# EAGLE library part STM32F407ZX (library motorFeedback)
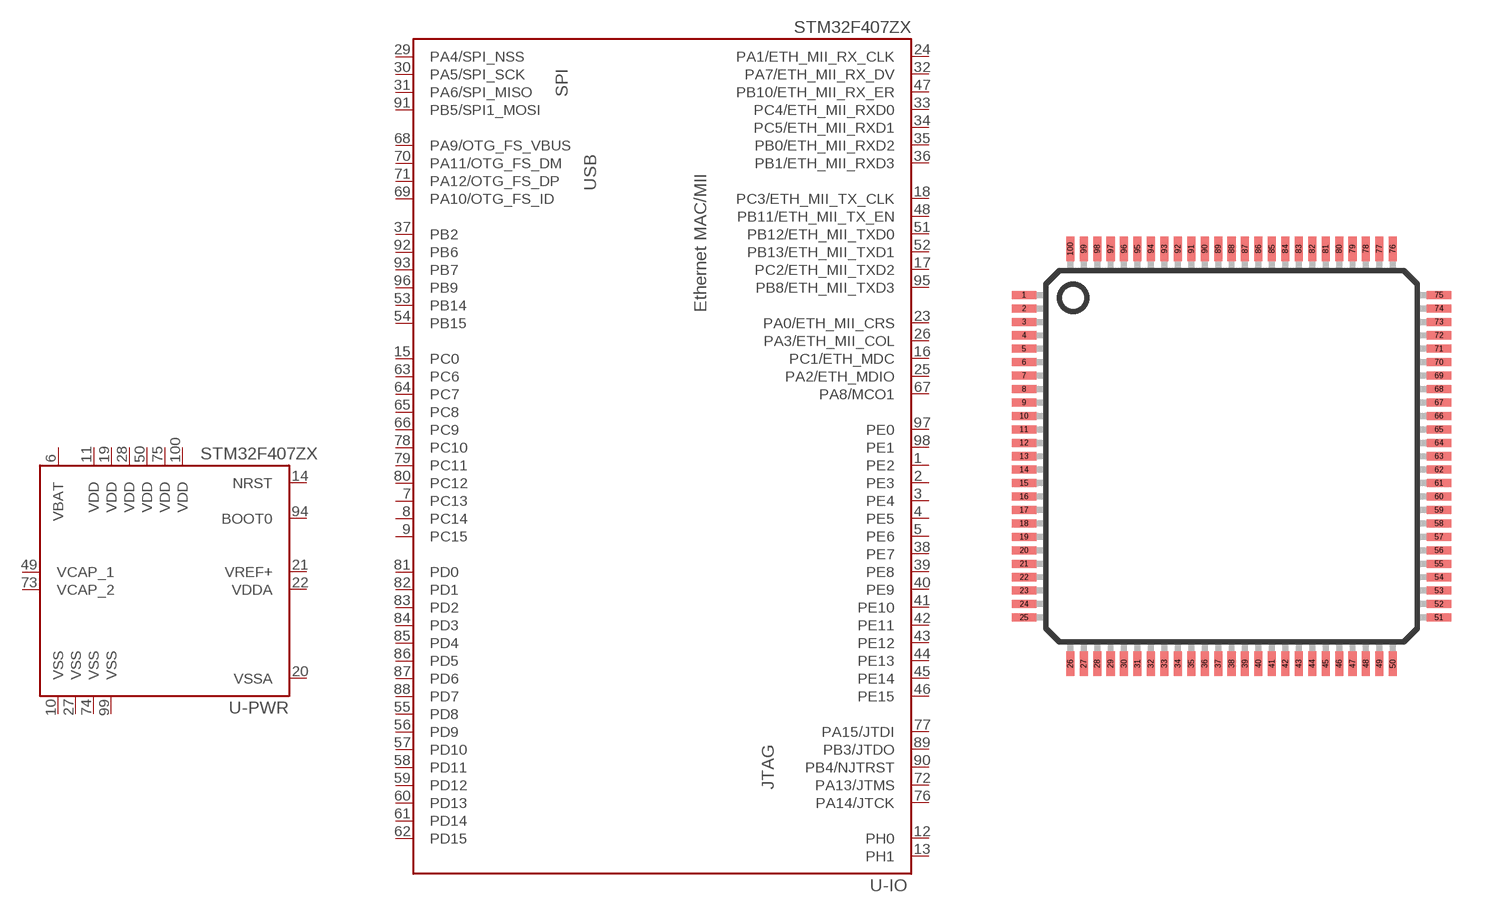
[diagram p32: symbol with the pads of LQFP-100; footprint LQFP-100]

Designator prefix U; gates -PWR=STM32F407ZX-PWR -IO=STM32F407ZX-IO

## STM32F407ZXT  [LQFP-100]
1  -IO:PE2
2  -IO:PE3
3  -IO:PE4
4  -IO:PE5
5  -IO:PE6
6  -PWR:VBAT  sup
7  -IO:PC13
8  -IO:PC14
9  -IO:PC15
10  -PWR:VSS  sup
11  -PWR:VDD  sup
12  -IO:PH0
13  -IO:PH1
14  -PWR:NRST  in
15  -IO:PC0
16  -IO:PC1/ETH_MDC
17  -IO:PC2/ETH_MII_TXD2
18  -IO:PC3/ETH_MII_TX_CLK
19  -PWR:VDD  sup
20  -PWR:VSSA  sup
21  -PWR:VREF+  sup
22  -PWR:VDDA  sup
23  -IO:PA0/ETH_MII_CRS
24  -IO:PA1/ETH_MII_RX_CLK
25  -IO:PA2/ETH_MDIO
26  -IO:PA3/ETH_MII_COL
27  -PWR:VSS  sup
28  -PWR:VDD  sup
29  -IO:PA4/SPI_NSS
30  -IO:PA5/SPI_SCK
31  -IO:PA6/SPI_MISO
32  -IO:PA7/ETH_MII_RX_DV
33  -IO:PC4/ETH_MII_RXD0
34  -IO:PC5/ETH_MII_RXD1
35  -IO:PB0/ETH_MII_RXD2
36  -IO:PB1/ETH_MII_RXD3
37  -IO:PB2
38  -IO:PE7
39  -IO:PE8
40  -IO:PE9
41  -IO:PE10
42  -IO:PE11
43  -IO:PE12
44  -IO:PE13
45  -IO:PE14
46  -IO:PE15
47  -IO:PB10/ETH_MII_RX_ER
48  -IO:PB11/ETH_MII_TX_EN
49  -PWR:VCAP_1  sup
50  -PWR:VDD  sup
51  -IO:PB12/ETH_MII_TXD0
52  -IO:PB13/ETH_MII_TXD1
53  -IO:PB14
54  -IO:PB15
55  -IO:PD8
56  -IO:PD9
57  -IO:PD10
58  -IO:PD11
59  -IO:PD12
60  -IO:PD13
61  -IO:PD14
62  -IO:PD15
63  -IO:PC6
64  -IO:PC7
65  -IO:PC8
66  -IO:PC9
67  -IO:PA8/MCO1
68  -IO:PA9/OTG_FS_VBUS
69  -IO:PA10/OTG_FS_ID
70  -IO:PA11/OTG_FS_DM
71  -IO:PA12/OTG_FS_DP
72  -IO:PA13/JTMS
73  -PWR:VCAP_2  sup
74  -PWR:VSS  sup
75  -PWR:VDD  sup
76  -IO:PA14/JTCK
77  -IO:PA15/JTDI
78  -IO:PC10
79  -IO:PC11
80  -IO:PC12
81  -IO:PD0
82  -IO:PD1
83  -IO:PD2
84  -IO:PD3
85  -IO:PD4
86  -IO:PD5
87  -IO:PD6
88  -IO:PD7
89  -IO:PB3/JTDO
90  -IO:PB4/NJTRST
91  -IO:PB5/SPI1_MOSI
92  -IO:PB6
93  -IO:PB7
94  -PWR:BOOT0  in
95  -IO:PB8/ETH_MII_TXD3
96  -IO:PB9
97  -IO:PE0
98  -IO:PE1
99  -PWR:VSS  sup
100  -PWR:VDD  sup

## Footprint LQFP-100 (pad centres in mm)
LQFP-100 From: http://www.st.com/internet/com/TECHNICAL_RESOURCES/TECHNICAL_LITERATURE/DATASHEET/DM00037051.pdf
smd 0.9 x 0.3: 1 -7.72,6; 2 -7.72,5.5; 3 -7.72,5; 4 -7.72,4.5; 5 -7.72,4; 6 -7.72,3.5; 7 -7.72,3; 8 -7.72,2.5; 9 -7.72,2; 10 -7.72,1.5; 11 -7.72,1; 12 -7.72,0.5; 13 -7.72,0; 14 -7.72,-0.5; 15 -7.72,-1; 16 -7.72,-1.5; 17 -7.72,-2; 18 -7.72,-2.5; 19 -7.72,-3; 20 -7.72,-3.5; 21 -7.72,-4; 22 -7.72,-4.5; 23 -7.72,-5; 24 -7.72,-5.5; 25 -7.72,-6; 51 7.72,-6; 52 7.72,-5.5; 53 7.72,-5; 54 7.72,-4.5; 55 7.72,-4; 56 7.72,-3.5; 57 7.72,-3; 58 7.72,-2.5; 59 7.72,-2; 60 7.72,-1.5; 61 7.72,-1; 62 7.72,-0.5; 63 7.72,0; 64 7.72,0.5; 65 7.72,1; 66 7.72,1.5; 67 7.72,2; 68 7.72,2.5; 69 7.72,3; 70 7.72,3.5; 71 7.72,4; 72 7.72,4.5; 73 7.72,5; 74 7.72,5.5; 75 7.72,6
smd 0.3 x 0.9: 26 -6,-7.72; 27 -5.5,-7.72; 28 -5,-7.72; 29 -4.5,-7.72; 30 -4,-7.72; 31 -3.5,-7.72; 32 -3,-7.72; 33 -2.5,-7.72; 34 -2,-7.72; 35 -1.5,-7.72; 36 -1,-7.72; 37 -0.5,-7.72; 38 0,-7.72; 39 0.5,-7.72; 40 1,-7.72; 41 1.5,-7.72; 42 2,-7.72; 43 2.5,-7.72; 44 3,-7.72; 45 3.5,-7.72; 46 4,-7.72; 47 4.5,-7.72; 48 5,-7.72; 49 5.5,-7.72; 50 6,-7.72; 76 6,7.72; 77 5.5,7.72; 78 5,7.72; 79 4.5,7.72; 80 4,7.72; 81 3.5,7.72; 82 3,7.72; 83 2.5,7.72; 84 2,7.72; 85 1.5,7.72; 86 1,7.72; 87 0.5,7.72; 88 0,7.72; 89 -0.5,7.72; 90 -1,7.72; 91 -1.5,7.72; 92 -2,7.72; 93 -2.5,7.72; 94 -3,7.72; 95 -3.5,7.72; 96 -4,7.72; 97 -4.5,7.72; 98 -5,7.72; 99 -5.5,7.72; 100 -6,7.72